# Altium footprint library DW01A.PcbLib: 1 footprints
Each footprint in its own frame and in the unit in brackets; x right, y up, seen from the top. Pads: shape width x height; smd on the part's side, far side on the other; paste and mask are expansions set on the pad; w line width, h text height; cw(c..) or ccw(c..) is an arc to the next point about the centre after c.
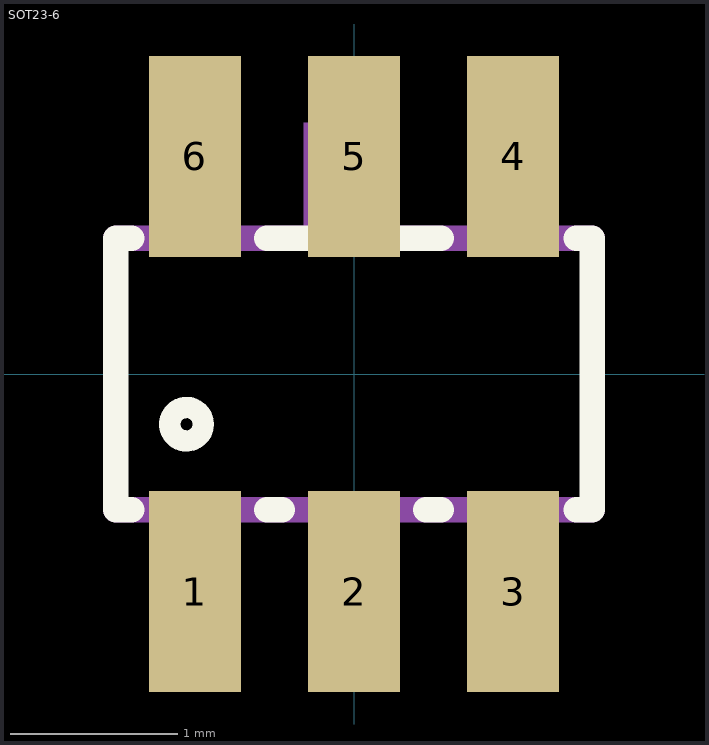
[diagram p0: the footprint, top view; thin cyan lines are the x and y axes]

## SOT23-6 [mm]
pads (6):
  rect 0.55x1.2 smd: 1(-0.95,-1.3) 2(0,-1.3) 3(0.95,-1.3) 4(0.95,1.3) 5(0,1.3) 6(-0.95,1.3)
Top Overlay:
  circle w0.127: c-1,-0.3 r0.1
  lines w0.152: -1.328,-0.81 -1.422,-0.81 -1.422,0.81 -1.328,0.81 ; -0.522,-0.81 -0.428,-0.81 ; -0.522,0.81 0.522,0.81 ; 0.428,-0.81 0.522,-0.81 ; 1.328,-0.81 1.422,-0.81 1.422,0.81 1.328,0.81
Mechanical 13:
  region: -0.7,-1.5 -1.2,-1.5 -1.2,-0.85 -0.7,-0.85
  region: 0.25,-1.5 -0.25,-1.5 -0.25,-0.85 0.25,-0.85
  region: 1.2,-1.5 0.7,-1.5 0.7,-0.85 1.2,-0.85
  region: 1.2,0.85 0.7,0.85 0.7,1.5 1.2,1.5
  region: -0.7,0.85 -1.2,0.85 -1.2,1.5 -0.7,1.5
  region: 0.2,0.85 -0.3,0.85 -0.3,1.5 0.2,1.5
  lines w0.152: -1.422,-0.81 1.422,-0.81 ; -1.422,0.81 1.422,0.81
3D body "DW01A-G.stp": height 1.47, standoff 0.02, extent -1.525,-1.373 1.525,1.627